# EAGLE library part 691317710006 (library Wuerth_Elektronik_eiCan_Terminal_Blocks_v2.0)
WR-TBL Serie 3177 - 5.0mm Close Horizontal PCB Header with Flanges , 6 Pins
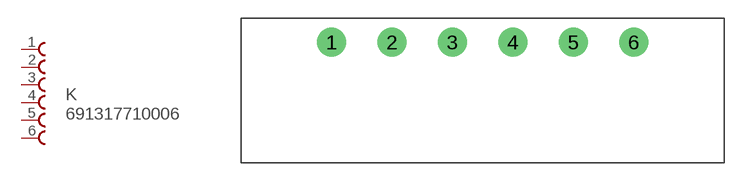
[diagram p70: symbol with the pads of 691317710006; footprint 691317710006]

Designator prefix K

## 691317710006  [691317710006]
1  1  pas
2  2  pas
3  3  pas
4  4  pas
5  5  pas
6  6  pas

## Footprint 691317710006 (pad centres in mm)
WR-TBL Serie 3177 - 5.0mm Close Horizontal PCB Header with Flanges , 6 Pins
drill 1.6 round: 1 -15,0; 2 -10,0; 3 -5,0; 4 0,0; 5 5,0; 6 10,0